# EAGLE library part MPU-6050 (library seb)
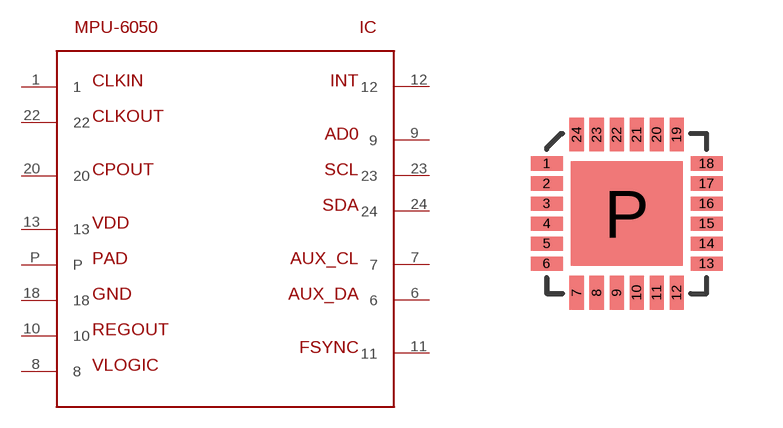
[diagram p11: symbol with the pads of QFN24; footprint QFN24]

Designator prefix IC

## MPU-6050  [QFN24]
1  1
6  6
7  7
8  8
9  9
10  10
11  11
12  12
13  13
18  18
20  20
22  22
23  23
24  24
P  P

## Footprint QFN24 (pad centres in mm)
smd 0.8 x 0.35: 1 -2,1.25; 2 -2,0.75; 3 -2,0.25; 4 -2,-0.25; 5 -2,-0.75; 6 -2,-1.25; 13 2,-1.25; 14 2,-0.75; 15 2,-0.25; 16 2,0.25; 17 2,0.75; 18 2,1.25
smd 0.35 x 0.85: 7 -1.25,-1.975; 8 -0.75,-1.975; 9 -0.25,-1.975; 10 0.25,-1.975; 11 0.75,-1.975; 12 1.25,-1.975; 19 1.25,1.975; 20 0.75,1.975; 21 0.25,1.975; 22 -0.25,1.975; 23 -0.75,1.975; 24 -1.25,1.975
smd 2.8 x 2.6: P 0,0